# EAGLE library part RASPBERRRY_COMPUTE_CM3 (library distributed-vision)
RASPBERRY PI COMPUTE 3+ 16GB
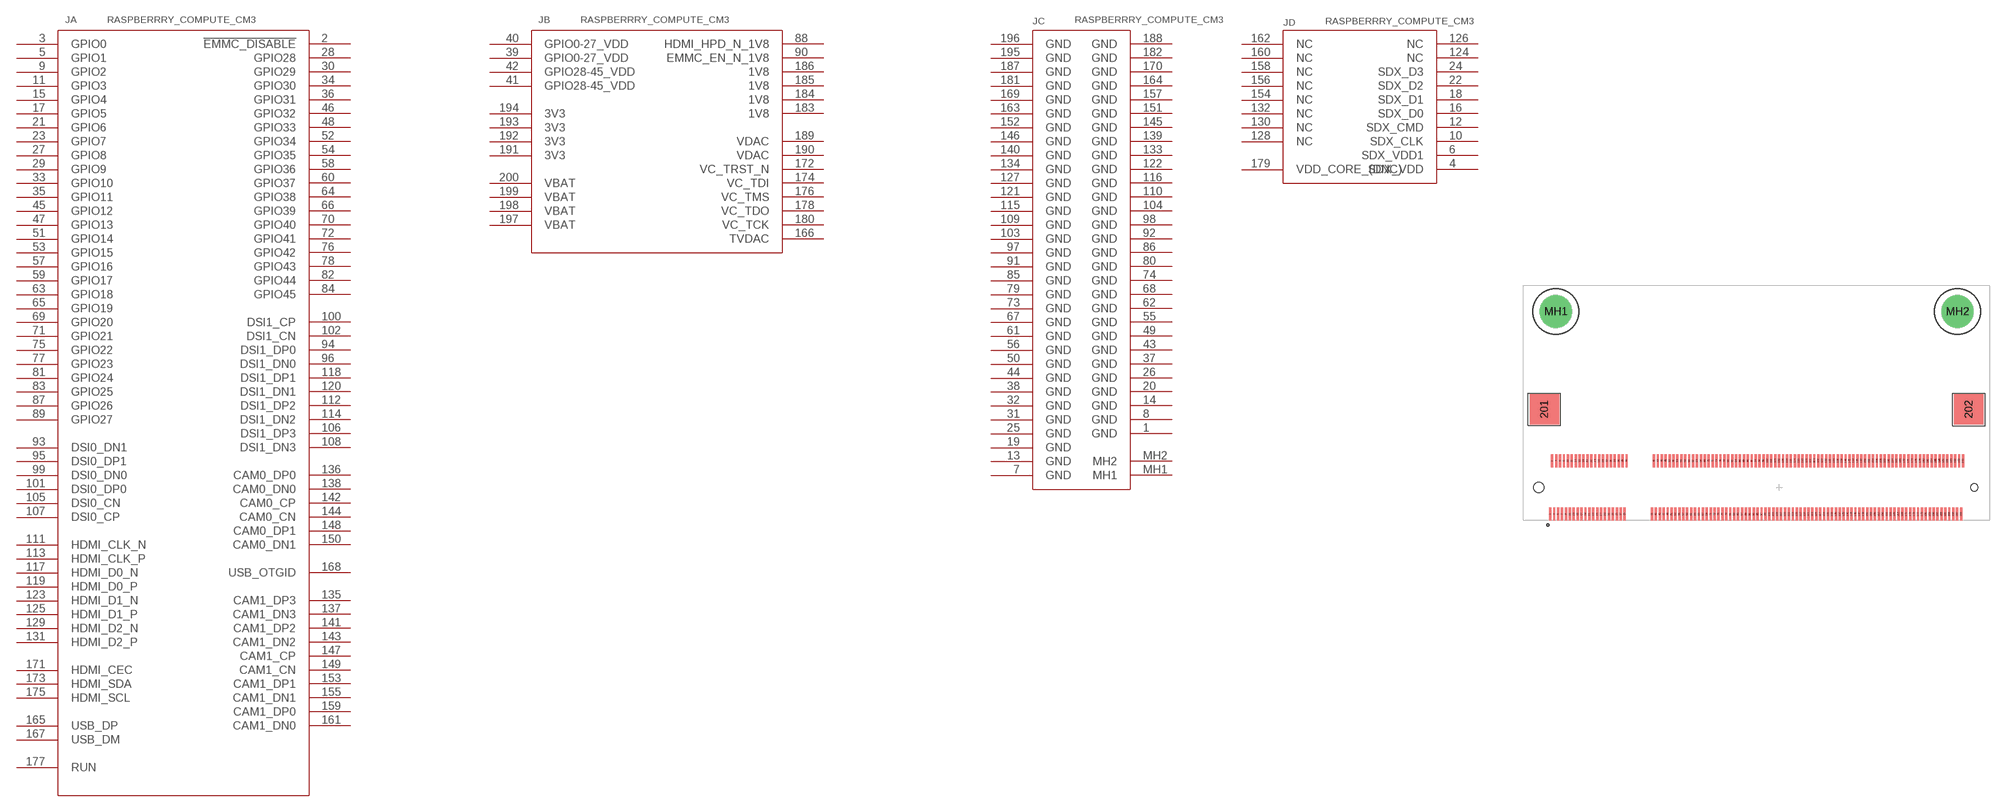
[diagram p3: symbol with the pads of TE_1473149-4_WITH_CM3PLUS; footprint TE_1473149-4_WITH_CM3PLUS]

Designator prefix J; gates A=CM3PLUS_A B=CM3PLUS_B C=CM3PLUS_C D=CM3PLUS_D

## RASPBERRRY_COMPUTE_CM3 (DKPN: 1690-1031-ND)  [TE_1473149-4_WITH_CM3PLUS]
1  C:GND  pwr
2  A:!EMMC_DISABLE  in
3  A:GPIO0
4  D:SDX_VDD  pas
5  A:GPIO1
6  D:SDX_VDD1  pas
7  C:GND  pwr
8  C:GND  pwr
9  A:GPIO2
10  D:SDX_CLK  pas
11  A:GPIO3
12  D:SDX_CMD  pas
13  C:GND  pwr
14  C:GND  pwr
15  A:GPIO4
16  D:SDX_D0  pas
17  A:GPIO5
18  D:SDX_D1  pas
19  C:GND  pwr
20  C:GND  pwr
21  A:GPIO6
22  D:SDX_D2  pas
23  A:GPIO7
24  D:SDX_D3  pas
25  C:GND  pwr
26  C:GND  pwr
27  A:GPIO8
28  A:GPIO28
29  A:GPIO9
30  A:GPIO29
31  C:GND  pwr
32  C:GND  pwr
33  A:GPIO10
34  A:GPIO30
35  A:GPIO11
36  A:GPIO31
37  C:GND  pwr
38  C:GND  pwr
39  B:GPIO0-27_VDD  pwr
40  B:GPIO0-27_VDD  pwr
41  B:GPIO28-45_VDD  pwr
42  B:GPIO28-45_VDD  pwr
43  C:GND  pwr
44  C:GND  pwr
45  A:GPIO12
46  A:GPIO32
47  A:GPIO13
48  A:GPIO33
49  C:GND  pwr
50  C:GND  pwr
51  A:GPIO14
52  A:GPIO34
53  A:GPIO15
54  A:GPIO35
55  C:GND  pwr
56  C:GND  pwr
57  A:GPIO16
58  A:GPIO36
59  A:GPIO17
60  A:GPIO37
61  C:GND  pwr
62  C:GND  pwr
63  A:GPIO18
64  A:GPIO38
65  A:GPIO19
66  A:GPIO39
67  C:GND  pwr
68  C:GND  pwr
69  A:GPIO20
70  A:GPIO40
71  A:GPIO21
72  A:GPIO41
73  C:GND  pwr
74  C:GND  pwr
75  A:GPIO22
76  A:GPIO42
77  A:GPIO23
78  A:GPIO43
79  C:GND  pwr
80  C:GND  pwr
81  A:GPIO24
82  A:GPIO44
83  A:GPIO25
84  A:GPIO45
85  C:GND  pwr
86  C:GND  pwr
87  A:GPIO26
88  B:HDMI_HPD_N_1V8  in
89  A:GPIO27
90  B:EMMC_EN_N_1V8  in
91  C:GND  pwr
92  C:GND  pwr
93  A:DSI0_DN1
94  A:DSI1_DP0
95  A:DSI0_DP1
96  A:DSI1_DN0
97  C:GND  pwr
98  C:GND  pwr
99  A:DSI0_DN0
100  A:DSI1_CP
101  A:DSI0_DP0
102  A:DSI1_CN
103  C:GND  pwr
104  C:GND  pwr
105  A:DSI0_CN
106  A:DSI1_DP3
107  A:DSI0_CP
108  A:DSI1_DN3
109  C:GND  pwr
110  C:GND  pwr
111  A:HDMI_CLK_N
112  A:DSI1_DP2
113  A:HDMI_CLK_P
114  A:DSI1_DN2
115  C:GND  pwr
116  C:GND  pwr
117  A:HDMI_D0_N
118  A:DSI1_DP1
119  A:HDMI_D0_P
120  A:DSI1_DN1
121  C:GND  pwr
122  C:GND  pwr
123  A:HDMI_D1_N
124  D:NC  pas
125  A:HDMI_D1_P
126  D:NC  pas
127  C:GND  pwr
128  D:NC  pas
129  A:HDMI_D2_N
130  D:NC  pas
131  A:HDMI_D2_P
132  D:NC  pas
133  C:GND  pwr
134  C:GND  pwr
135  A:CAM1_DP3
136  A:CAM0_DP0
137  A:CAM1_DN3
138  A:CAM0_DN0
139  C:GND  pwr
140  C:GND  pwr
141  A:CAM1_DP2
142  A:CAM0_CP
143  A:CAM1_DN2
144  A:CAM0_CN
145  C:GND  pwr
146  C:GND  pwr
147  A:CAM1_CP
148  A:CAM0_DP1
149  A:CAM1_CN
150  A:CAM0_DN1
151  C:GND  pwr
152  C:GND  pwr
153  A:CAM1_DP1
154  D:NC  pas
155  A:CAM1_DN1
156  D:NC  pas
157  C:GND  pwr
158  D:NC  pas
159  A:CAM1_DP0
160  D:NC  pas
161  A:CAM1_DN0
162  D:NC  pas
163  C:GND  pwr
164  C:GND  pwr
165  A:USB_DP
166  B:TVDAC
167  A:USB_DM
168  A:USB_OTGID
169  C:GND  pwr
170  C:GND  pwr
171  A:HDMI_CEC
172  B:VC_TRST_N
173  A:HDMI_SDA
174  B:VC_TDI
175  A:HDMI_SCL
176  B:VC_TMS
177  A:RUN  in
178  B:VC_TDO  pwr
179  D:VDD_CORE_(DNC)  nc
180  B:VC_TCK  pwr
181  C:GND  pwr
182  C:GND  pwr
183  B:1V8  pwr
184  B:1V8  pwr
185  B:1V8  pwr
186  B:1V8  pwr
187  C:GND  pwr
188  C:GND  pwr
189  B:VDAC  pwr
190  B:VDAC  pwr
191  B:3V3  pwr
192  B:3V3  pwr
193  B:3V3  pwr
194  B:3V3  pwr
195  C:GND  pwr
196  C:GND  pwr
197  B:VBAT  pwr
198  B:VBAT  pwr
199  B:VBAT  pwr
200  B:VBAT  pwr
MH1  C:MH1  pas
MH2  C:MH2  pas

## Footprint TE_1473149-4_WITH_CM3PLUS (pad centres in mm)
smd 0.35 x 2: 1 -35.1,-4.1; 2 -34.8,4.1; 3 -34.5,-4.1; 4 -34.2,4.1; 5 -33.9,-4.1; 6 -33.6,4.1; 7 -33.3,-4.1; 8 -33,4.1; 9 -32.7,-4.1; 10 -32.4,4.1; 11 -32.1,-4.1; 12 -31.8,4.1; 13 -31.5,-4.1; 14 -31.2,4.1; 15 -30.9,-4.1; 16 -30.6,4.1; 17 -30.3,-4.1; 18 -30,4.1; 19 -29.7,-4.1; 20 -29.4,4.1; 21 -29.1,-4.1; 22 -28.8,4.1; 23 -28.5,-4.1; 24 -28.2,4.1; 25 -27.9,-4.1; 26 -27.6,4.1; 27 -27.3,-4.1; 28 -27,4.1; 29 -26.7,-4.1; 30 -26.4,4.1; 31 -26.1,-4.1; 32 -25.8,4.1; 33 -25.5,-4.1; 34 -25.2,4.1; 35 -24.9,-4.1; 36 -24.6,4.1; 37 -24.3,-4.1; 38 -24,4.1; 39 -23.7,-4.1; 40 -23.4,4.1; 41 -19.5,-4.1; 42 -19.2,4.1; 43 -18.9,-4.1; 44 -18.6,4.1; 45 -18.3,-4.1; 46 -18,4.1; 47 -17.7,-4.1; 48 -17.4,4.1; 49 -17.1,-4.1; 50 -16.8,4.1; 51 -16.5,-4.1; 52 -16.2,4.1; 53 -15.9,-4.1; 54 -15.6,4.1; 55 -15.3,-4.1; 56 -15,4.1; 57 -14.7,-4.1; 58 -14.4,4.1; 59 -14.1,-4.1; 60 -13.8,4.1; 61 -13.5,-4.1; 62 -13.2,4.1; 63 -12.9,-4.1; 64 -12.6,4.1; 65 -12.3,-4.1; 66 -12,4.1; 67 -11.7,-4.1; 68 -11.4,4.1; 69 -11.1,-4.1; 70 -10.8,4.1; 71 -10.5,-4.1; 72 -10.2,4.1; 73 -9.9,-4.1; 74 -9.6,4.1; 75 -9.3,-4.1; 76 -9,4.1; 77 -8.7,-4.1; 78 -8.4,4.1; 79 -8.1,-4.1; 80 -7.8,4.1; 81 -7.5,-4.1; 82 -7.2,4.1; 83 -6.9,-4.1; 84 -6.6,4.1; 85 -6.3,-4.1; 86 -6,4.1; 87 -5.7,-4.1; 88 -5.4,4.1; 89 -5.1,-4.1; 90 -4.8,4.1; 91 -4.5,-4.1; 92 -4.2,4.1; 93 -3.9,-4.1; 94 -3.6,4.1; 95 -3.3,-4.1; 96 -3,4.1; 97 -2.7,-4.1; 98 -2.4,4.1; 99 -2.1,-4.1; 100 -1.8,4.1; 101 -1.5,-4.1; 102 -1.2,4.1; 103 -0.9,-4.1; 104 -0.6,4.1; 105 -0.3,-4.1; 106 0,4.1; 107 0.3,-4.1; 108 0.6,4.1; 109 0.9,-4.1; 110 1.2,4.1; 111 1.5,-4.1; 112 1.8,4.1; 113 2.1,-4.1; 114 2.4,4.1; 115 2.7,-4.1; 116 3,4.1; 117 3.3,-4.1; 118 3.6,4.1; 119 3.9,-4.1; 120 4.2,4.1; 121 4.5,-4.1; 122 4.8,4.1; 123 5.1,-4.1; 124 5.4,4.1; 125 5.7,-4.1; 126 6,4.1; 127 6.3,-4.1; 128 6.6,4.1; 129 6.9,-4.1; 130 7.2,4.1; 131 7.5,-4.1; 132 7.8,4.1; 133 8.1,-4.1; 134 8.4,4.1; 135 8.7,-4.1; 136 9,4.1; 137 9.3,-4.1; 138 9.6,4.1; 139 9.9,-4.1; 140 10.2,4.1; 141 10.5,-4.1; 142 10.8,4.1; 143 11.1,-4.1; 144 11.4,4.1; 145 11.7,-4.1; 146 12,4.1; 147 12.3,-4.1; 148 12.6,4.1; 149 12.9,-4.1; 150 13.2,4.1; 151 13.5,-4.1; 152 13.8,4.1; 153 14.1,-4.1; 154 14.4,4.1; 155 14.7,-4.1; 156 15,4.1; 157 15.3,-4.1; 158 15.6,4.1; 159 15.9,-4.1; 160 16.2,4.1; 161 16.5,-4.1; 162 16.8,4.1; 163 17.1,-4.1; 164 17.4,4.1; 165 17.7,-4.1; 166 18,4.1; 167 18.3,-4.1; 168 18.6,4.1; 169 18.9,-4.1; 170 19.2,4.1; 171 19.5,-4.1; 172 19.8,4.1; 173 20.1,-4.1; 174 20.4,4.1; 175 20.7,-4.1; 176 21,4.1; 177 21.3,-4.1; 178 21.6,4.1; 179 21.9,-4.1; 180 22.2,4.1; 181 22.5,-4.1; 182 22.8,4.1; 183 23.1,-4.1; 184 23.4,4.1; 185 23.7,-4.1; 186 24,4.1; 187 24.3,-4.1; 188 24.6,4.1; 189 24.9,-4.1; 190 25.2,4.1; 191 25.5,-4.1; 192 25.8,4.1; 193 26.1,-4.1; 194 26.4,4.1; 195 26.7,-4.1; 196 27,4.1; 197 27.3,-4.1; 198 27.6,4.1; 199 27.9,-4.1; 200 28.2,4.1
smd 4.5 x 4.6: 201 -36,12; 202 29.1,12
drill 2.3 pad 5: MH1 -34.25,27; MH2 27.35,27
hole 1.6 at -36.85,0
hole 1.1 at 29.95,0